# EAGLE library part MIC5380_LARGE_PADS (library csandell)
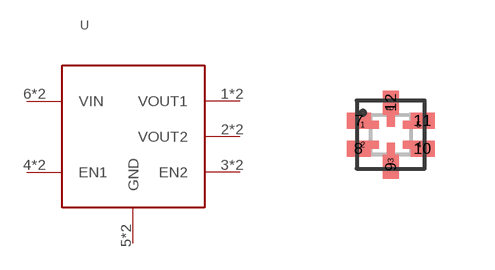
[diagram p4: symbol with the pads of 6-TMLF_SMD_PADS; footprint 6-TMLF_SMD_PADS]

Designator prefix -

## MIC5380_LARGE_PADS  [6-TMLF_SMD_PADS]
1  VOUT1  pwr
2  VOUT2  pwr
3  EN2  in
4  EN1  in
5  GND  pwr
6  VIN  pwr
7  VOUT1  pwr
8  VOUT2  pwr
9  EN2  in
10  EN1  in
11  GND  pwr
12  VIN  pwr

## Footprint 6-TMLF_SMD_PADS (pad centres in mm)
smd 0.8 x 0.2: 1 -0.7,0.25; 2 -0.7,-0.25; 4 0.7,-0.25; 5 0.7,0.25
smd 0.2 x 0.9: 3 0,-0.65; 6 0,0.65
smd 0.6 x 0.4: 7 -0.8,0.35; 8 -0.8,-0.35; 10 0.8,-0.35; 11 0.8,0.35
smd 0.4 x 0.6: 9 0,-0.8; 12 0,0.8